# Altium schematic symbol library Connectors.SchLib: 12 symbols
Pins are listed as number, name and electrical type; pins without a type are passive.

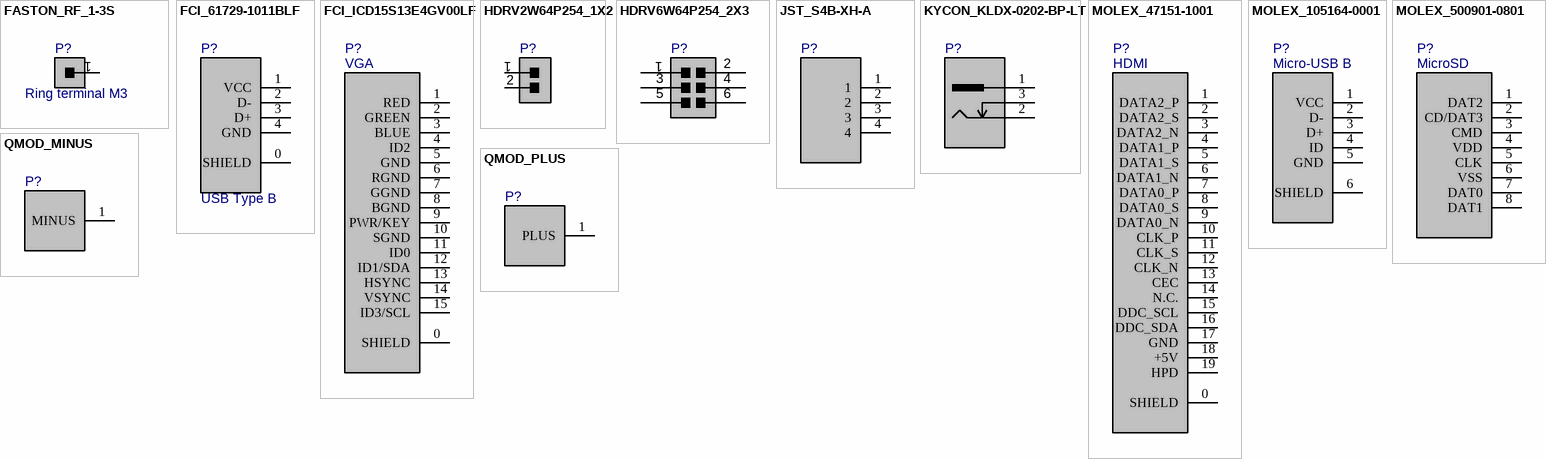
[diagram p0: symbols FASTON_RF_1-3S to QMOD_PLUS]

## FASTON_RF_1-3S
designator P?, comment Ring terminal M3
Faston; Contacts: 1; ComponentLink1Description: Datasheet; Created: 2015-03-24; Last Updated: 2015-03-24
footprint PCB_FASTON_RF_1-3S
pins: 1

## FCI_61729-1011BLF
designator P?, comment USB Type B
USB Connectors 4P R/A RECEPTACLE STYLE B; Manufacturer 1: FCI; Manufacturer Part Number 1: 61729-1011BLF; Contacts: 4; Mounting Angle: Horizontal; Pitch: 2.5mm; ComponentLink1Description: Datasheet; ComponentLink1URL: http://www.mouser.com/ds/2/154/61729-82870.pdf; Created: 2013-10-17; Last Updated: 2014-05-07; Mounting Style: Through-hole; Supplier 1: Mouser; Supplier Part Number 1: 649-61729-1011BLF
footprint FCI_61729-1011BLF (USB Connectors 4P R/A RECEPTACLE STYLE B)
pins: 0 SHIELD, 1 VCC, 2 D-, 3 D+, 4 GND

## FCI_ICD15S13E4GV00LF
designator P?, comment VGA
VGA Receptacle; Manufacturer 1: FCI; Manufacturer Part Number 1: ICD15S13E4GV00LF; Contacts: 15; Mounting Angle: Horizontal; ComponentLink1Description: Datasheet; Created: 2014-05-16; Last Updated: 2014-05-16; Mounting Style: Through-hole; Supplier 1: Mouser
footprint FCI_ICD15S13E4GV00LF (DSUB-15 (VGA connector))
pins: 0 SHIELD, 1 RED "Red Video (75 ohm, 0.7V p-p)", 2 GREEN "Green Video (75 ohm, 0.7V p-p)", 3 BLUE "Blue Video (75 ohm, 0.7V p-p)", 4 ID2 "Monitor ID Bit 2", 5 GND "Ground", 6 RGND "Reg Ground", 7 GGND "Green Ground", 8 BGND "Blue Ground", 9 PWR/KEY "Not connected", 10 SGND "Sync Ground", 11 ID0 "Monitor ID Bit 0 (GND=Color; NC=Mono)", 12 ID1/SDA "Monitor ID Bit 1 (NC=Color; GND=Mono)", 13 HSYNC "Horizontal Sync (or Composite Sync)", 14 VSYNC "Vertical Sync", 15 ID3/SCL "Monitor ID Bit 3"

## HDRV2W64P254_1X2
designator P?  (value not drawn)
Header 2, Unshrouded; Contacts: 2; Mounting Angle: Vertical; Pitch: 2.54mm; Supplier 1: Mouser; Created: 2013-09-28; Last Updated: 2014-02-10; Mounting Style: Through-hole; ComponentLink1Description: Datasheet
footprint HDR1X2 (Connector; Header; 2 Position)
pins: 1, 2

## HDRV6W64P254_2X3
designator P?  (value not drawn)
Header 2x3, Unshrouded; Contacts: 6; Mounting Angle: Vertical; Pitch: 2.54mm; Supplier 1: Mouser; Supplier Part Number 1: 538-70287-1001; Created: 2013-09-28; Last Updated: 2014-02-10; Mounting Style: Through-hole; ComponentLink1Description: Datasheet
footprint HDR2X3 (Connector; Header; 3x2 Position)
pins: 1, 2, 3, 4, 5, 6

## JST_S4B-XH-A
designator P?, comment JST  (value not drawn)
Contacts: 4; Mounting Angle: Horizontal; ComponentLink1Description: Datasheet; Created: 2015-03-21; Last Updated: 2015-03-21; Manufacturer 1: JST; Mounting Style: Through-hole
footprint JST_S4B-XH-A
pins: 1, 2, 3, 4

## KYCON_KLDX-0202-BP-LT
designator P?, comment KYCON  (value not drawn)
Manufacturer Part Number 1: KLDX-0202-BP-LT; Contacts: 2; Mounting Angle: Horizontal; ComponentLink1Description: Datasheet; Created: 2015-03-21; Last Updated: 2015-03-21; Manufacturer 1: Kycon; Mounting Style: Through-hole; Supplier 1: Mouser; Supplier Part Number 1: 806-KLDX-0202-BP-LT
footprint KYCON_KLDX-0202-B (Kycon DC Power Connectors 2.5mm PCB)
pins: 1, 2, 3

## MOLEX_47151-1001
designator P?, comment HDMI
HDMI Receptacle; Manufacturer 1: Molex; Manufacturer Part Number 1: 47151-1001; Contacts: 19; Mounting Angle: Horizontal; Pitch: 0.5mm; ComponentLink1Description: Datasheet; Created: 2014-05-07; Last Updated: 2014-05-07; Mounting Style: Through-hole
footprint MOLEX_47151-0001 (Footprint not found)
pins: 0 SHIELD, 1 DATA2_P, 2 DATA2_S, 3 DATA2_N, 4 DATA1_P, 5 DATA1_S, 6 DATA1_N, 7 DATA0_P, 8 DATA0_S, 9 DATA0_N, 10 CLK_P, 11 CLK_S, 12 CLK_N, 13 CEC, 14 N.C., 15 DDC_SCL, 16 DDC_SDA, 17 GND, 18 +5V, 19 HPD

## MOLEX_105164-0001
designator P?, comment Micro-USB B
Micro-USB B Receptacle without Flange, Top Mount, SMT, Lead-Free; Manufacturer 1: Molex; Manufacturer Part Number 1: 105164-0001; Contacts: 7; Mounting Angle: Horizontal; Pitch: 0.65mm; Last Updated: 2014-02-11; Supplier Part Number 1: 538-105164-0001; Supplier 1: Mouser; Created: 2013-09-28; Mounting Style: SMD/Through-hole; ComponentLink1Description: Datasheet; ComponentLink1URL: http://www.molex.com/pdm_docs/sd/1051640001_sd.pdf
footprint Molex_105164-0001
pins: 1 VCC (power), 2 D-, 3 D+, 4 ID, 5 GND, 6 SHIELD

## MOLEX_500901-0801
designator P?, comment MicroSD
MicroSD hinged memory card connector; Manufacturer 1: Molex; Manufacturer Part Number 1: 500901-0801; Contacts: 8; Mounting Angle: Horizontal; Pitch: 1.1mm; Last Updated: 2014-05-30; Supplier Part Number 1: 538-500901-0801; Supplier 1: Mouser; Created: 2014-05-30; Mounting Style: SMD; ComponentLink1Description: Datasheet
footprint MOLEX_500901-0801 (Footprint not found)
pins: 1 DAT2, 2 CD/DAT3, 3 CMD, 4 VDD (power), 5 CLK, 6 VSS (power), 7 DAT0, 8 DAT1

## QMOD_MINUS
designator P?, comment QMOD  (value not drawn)
Contacts: 4; ComponentLink1Description: Datasheet; Created: 2015-03-21; Last Updated: 2015-03-21
footprint QMOD_MINUS
pins: 1 MINUS

## QMOD_PLUS
designator P?, comment QMOD  (value not drawn)
Contacts: 4; ComponentLink1Description: Datasheet; Created: 2015-03-21; Last Updated: 2015-03-21
footprint QMOD_PLUS
pins: 1 PLUS